# Altium integrated library ST Automotive Diagnostic Serial Link.IntLib: 2 symbols
Pins are listed as number, name and electrical type; pins without a type are passive.

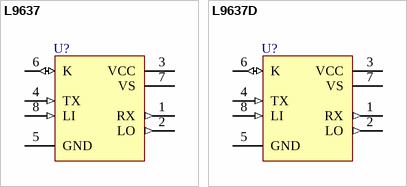
[diagram p0: symbols L9637 to L9637D]

## L9637
designator U?
ISO 9141 Interface; Published: 24-Aug-2001; LatestRevisionDate: 17-Jul-2002; LatestRevisionNote: Re-released for DXP Platform.; DatasheetDocument: Dec-1998; PackageReference: DIP8; Publisher: Altium Limited; Code_JEDEC: MO-001-AN
footprint DIP8 (DIP; 8 Leads; Row Spacing 7.62 mm; Pitch 2.54 mm)
pins: 1 RX (out), 2 LO (out), 3 VCC (power), 4 TX (in), 5 GND (power), 6 K (io), 7 VS (power), 8 LI (in)

## L9637D
designator U?
ISO 9141 Interface; Published: 24-Aug-2001; LatestRevisionDate: 17-Jul-2002; LatestRevisionNote: Re-released for DXP Platform.; DatasheetDocument: Dec-1998; PackageDocument: Jul-1998; PackageReference: SO8; Publisher: Altium Limited; Code_JEDEC: MS-012-AA; Code_IPC: SO8
footprint SO8 (Small Outline; 8 Leads; Body Width 3.9 mm; Pitch 1.27 mm)
pins: 1 RX (out), 2 LO (out), 3 VCC (power), 4 TX (in), 5 GND (power), 6 K (io), 7 VS (power), 8 LI (in)